# Altium schematic symbol library RC0603JR-071ML.SchLib: 1 symbol
Pins are listed as number, name and electrical type; pins without a type are passive.

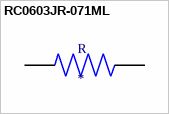
[diagram p0: symbol RC0603JR-071ML]

## RC0603JR-071ML
designator R
1 MOhms Â±5% 0.1W, 1/10W Chip Resistor 0603 (1608 Metric) Moisture Resistant Thick Film; MP: RC0603JR-071ML; MF: Yageo; SnapEDA_Link: https://www.snapeda.com/parts/RC0603JR-071ML/Yageo/view-part/106056/?ref=snap; Package: 1608 Yageo; Value: *; Availability: Unavailable; Price: None
footprint RESC1608X55N
pins: 1, 2